# EAGLE library part 2X6_MINUS1 (library slice)
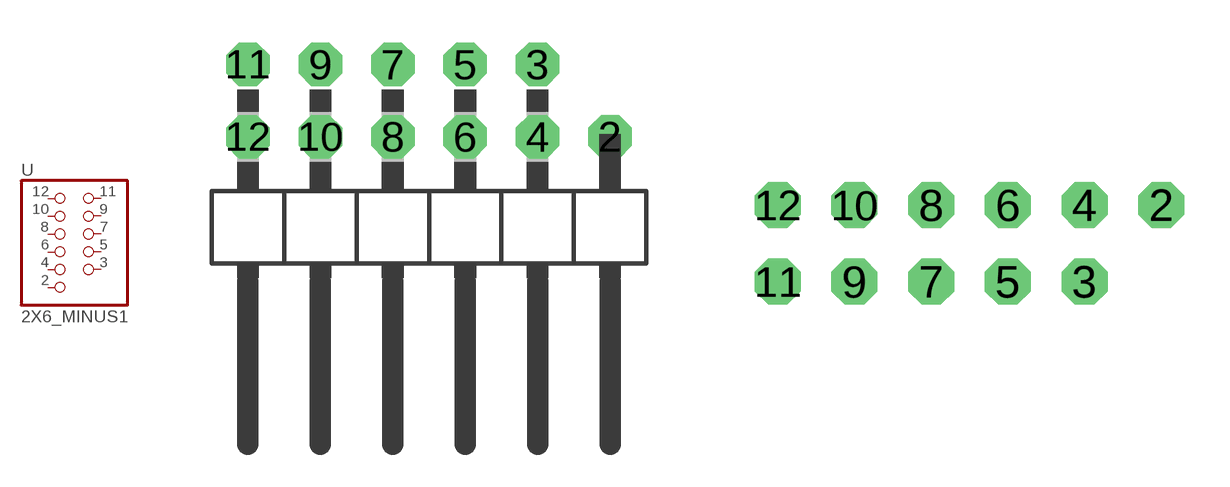
[diagram p8: symbol with the pads of 2X6_MINUS1; footprints 2X6_MINUS1, 2X6_MINUS1_FM]

Designator prefix -

## 2X6_MINUS1  [2X6_MINUS1]
2  11  pas
3  10  pas
4  9  pas
5  8  pas
6  7  pas
7  6  pas
8  5  pas
9  4  pas
10  3  pas
11  2  pas
12  1  pas

## 2X6_MINUS1FEMALE  [2X6_MINUS1_FM]
Pads as for 2X6_MINUS1

## Footprint 2X6_MINUS1 (pad centres in mm)
drill 1.016 octagon: 2 6.35,2.54; 3 3.81,5.08; 4 3.81,2.54; 5 1.27,5.08; 6 1.27,2.54; 7 -1.27,5.08; 8 -1.27,2.54; 9 -3.81,5.08; 10 -3.81,2.54; 11 -6.35,5.08; 12 -6.35,2.54

## Footprint 2X6_MINUS1_FM (pad centres in mm)
drill 1.016 octagon: 2 6.35,1.27; 3 3.81,-1.27; 4 3.81,1.27; 5 1.27,-1.27; 6 1.27,1.27; 7 -1.27,-1.27; 8 -1.27,1.27; 9 -3.81,-1.27; 10 -3.81,1.27; 11 -6.35,-1.27; 12 -6.35,1.27